# EAGLE library part MA16-2 (library con-lstb)
PIN HEADER
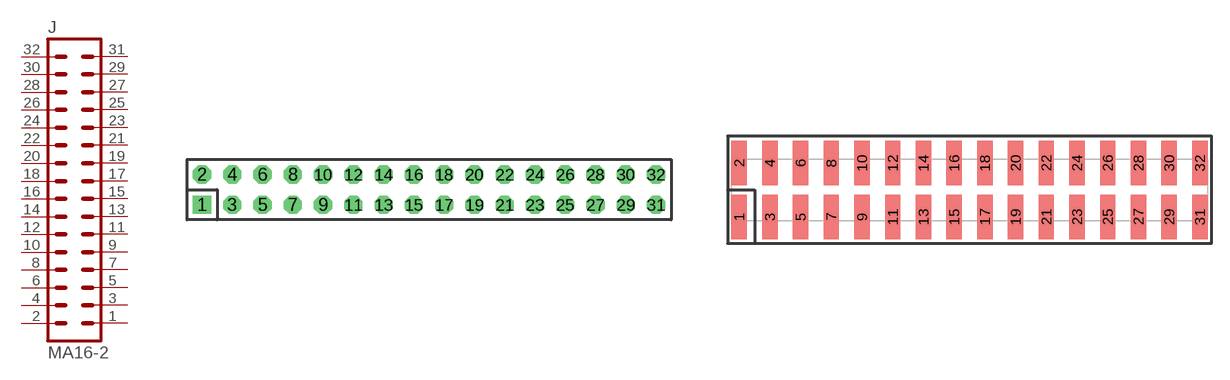
[diagram p39: symbol with the pads of MA16-2; footprints MA16-2, SMD-MA16-2]

Designator prefix J

## MA16-2  [MA16-2]
1  1  pas
2  2  pas
3  3  pas
4  4  pas
5  5  pas
6  6  pas
7  7  pas
8  8  pas
9  9  pas
10  10  pas
11  11  pas
12  12  pas
13  13  pas
14  14  pas
15  15  pas
16  16  pas
17  17  pas
18  18  pas
19  19  pas
20  20  pas
21  21  pas
22  22  pas
23  23  pas
24  24  pas
25  25  pas
26  26  pas
27  27  pas
28  28  pas
29  29  pas
30  30  pas
31  31  pas
32  32  pas

## MA16-2SMD  [SMD-MA16-2]
Pads as for MA16-2

## Footprint MA16-2 (pad centres in mm)
PIN HEADER
drill 1.016 square: 1 -19.05,-1.27
drill 1.016 octagon: 2 -19.05,1.27; 3 -16.51,-1.27; 4 -16.51,1.27; 5 -13.97,-1.27; 6 -13.97,1.27; 7 -11.43,-1.27; 8 -11.43,1.27; 9 -8.89,-1.27; 10 -8.89,1.27; 11 -6.35,-1.27; 12 -6.35,1.27; 13 -3.81,-1.27; 14 -3.81,1.27; 15 -1.27,-1.27; 16 -1.27,1.27; 17 1.27,-1.27; 18 1.27,1.27; 19 3.81,-1.27; 20 3.81,1.27; 21 6.35,-1.27; 22 6.35,1.27; 23 8.89,-1.27; 24 8.89,1.27; 25 11.43,-1.27; 26 11.43,1.27; 27 13.97,-1.27; 28 13.97,1.27; 29 16.51,-1.27; 30 16.51,1.27; 31 19.05,-1.27; 32 19.05,1.27

## Footprint SMD-MA16-2 (pad centres in mm)
SMD Dual Row, Vertical - 0.1" Sullins, G XCXXDABN-M30 Series
smd 1.27 x 3.68: 1 -19.05,-2.223; 2 -19.05,2.223; 3 -16.51,-2.223; 4 -16.51,2.223; 5 -13.97,-2.223; 6 -13.97,2.223; 7 -11.43,-2.223; 8 -11.43,2.223; 9 -8.89,-2.223; 10 -8.89,2.223; 11 -6.35,-2.223; 12 -6.35,2.223; 13 -3.81,-2.223; 14 -3.81,2.223; 15 -1.27,-2.223; 16 -1.27,2.223; 17 1.27,-2.223; 18 1.27,2.223; 19 3.81,-2.223; 20 3.81,2.223; 21 6.35,-2.223; 22 6.35,2.223; 23 8.89,-2.223; 24 8.89,2.223; 25 11.43,-2.223; 26 11.43,2.223; 27 13.97,-2.223; 28 13.97,2.223; 29 16.51,-2.223; 30 16.51,2.223; 31 19.05,-2.223; 32 19.05,2.223